# Altium schematic symbol library STM32F103C8T6_Coreboard.SchLib: 12 symbols
Pins are listed as number, name and electrical type; pins without a type are passive.

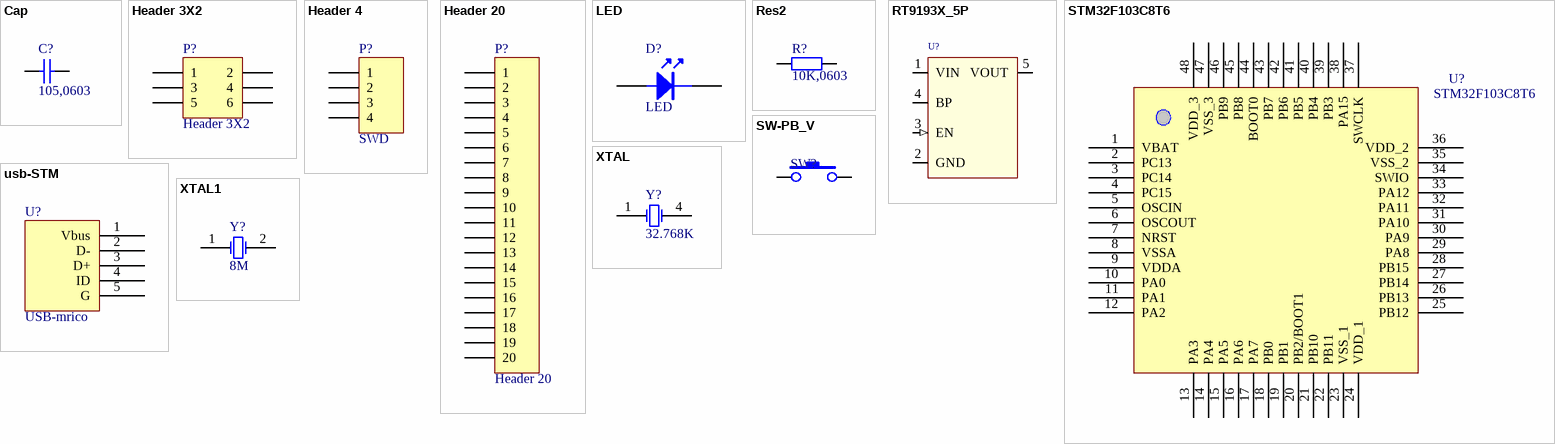
[diagram p0: symbols Cap to XTAL1]

## Cap
designator C?, comment 105,0603
Capacitor; Value: 104; Published: 8-Jun-2000; LatestRevisionDate: 17-Jul-2002; LatestRevisionNote: Re-released for DXP Platform.; Publisher: Altium Limited
footprint C0603
pins: 1, 2

## Header 3X2
designator P?
Header, 3-Pin, Dual row; LatestRevisionDate: 17-Jul-2002; LatestRevisionNote: Re-released for DXP Platform.; Publisher: Altium Limited
footprint HDR2X3 (Connector; Header; 3x2 Position)
pins: 1, 2, 3, 4, 5, 6

## Header 4
designator P?, comment SWD
Header, 4-Pin; LatestRevisionDate: 17-Jul-2002; LatestRevisionNote: Re-released for DXP Platform.; Publisher: Altium Limited
footprint HDR1X4H (Connector; Header; 4 Position; Right Angle)
pins: 1, 2, 3, 4

## Header 20
designator P?
Header, 20-Pin; LatestRevisionDate: 17-Jul-2002; LatestRevisionNote: Re-released for DXP Platform.; Publisher: Altium Limited
footprint HDR1X20 (Connector; Header; 20 Position)
pins: 1, 2, 3, 4, 5, 6, 7, 8, 9, 10, 11, 12, 13, 14, 15, 16, 17, 18, 19, 20

## LED
designator D?
footprint LED; pin to pad A>1 K>2
pins: A 1, K 2

## Res2
designator R?, comment 10K,0603
Resistor; Published: 8-Jun-2000; LatestRevisionDate: 17-Jul-2002; LatestRevisionNote: Re-released for DXP Platform.; Publisher: Altium Limited
footprint CR2012-0805 (Chip Resistor; Body 2.0 x 1.3 mm (LxW typ))
simulation model RESISTOR (Resistor)
signal-integrity model Res
footprint R0603
pins: 1, 2

## RT9193X_5P
designator U?, comment RT9193  (value not drawn)
ICA_MFR_NAME: RICHTEK; ICA_PARTNUM: $$2191094$$RT9193-15CU5; Part Number: TMP-13
footprint SOT-23-5
pins: 1 VIN (power), 2 GND (power), 3 EN (in), 4 BP, 5 VOUT (power)

## STM32F103C8T6
designator U?
footprint 48P
pins: 1 VBAT, 2 PC13, 3 PC14, 4 PC15, 5 OSCIN, 6 OSCOUT, 7 NRST, 8 VSSA, 9 VDDA, 10 PA0, 11 PA1, 12 PA2, 13 PA3, 14 PA4, 15 PA5, 16 PA6, 17 PA7, 18 PB0, 19 PB1, 20 PB2/BOOT1, 21 PB10, 22 PB11, 23 VSS_1, 24 VDD_1, 25 PB12, 26 PB13, 27 PB14, 28 PB15, 29 PA8, 30 PA9, 31 PA10, 32 PA11, 33 PA12, 34 SWIO, 35 VSS_2, 36 VDD_2, 37 SWCLK, 38 PA15, 39 PB3, 40 PB4, 41 PB5, 42 PB6, 43 PB7, 44 BOOT0, 45 PB8, 46 PB9, 47 VSS_3, 48 VDD_3

## SW-PB_V
designator SW?
SWITCH
footprint KEY-SMT
pins: 1, 2

## usb-STM
designator U?, comment USB-mrico
footprint Micro_USB
pins: 1 Vbus, 2 D-, 3 D+, 4 ID, 5 G

## XTAL
designator Y?, comment 32.768K
Crystal Oscillator; Published: 8-Jun-2000; LatestRevisionDate: 17-Jul-2002; LatestRevisionNote: Re-released for DXP Platform.; Publisher: Altium Limited
footprint MC-306
pins: 1 OSC1, 4 OSC2

## XTAL1
designator Y?, comment 8M
Crystal Oscillator; Published: 8-Jun-2000; LatestRevisionDate: 17-Jul-2002; LatestRevisionNote: Re-released for DXP Platform.; Publisher: Altium Limited
footprint XTAL1
pins: 1 OSC1, 2 OSC2